# EAGLE library part 691417320006S (library WR-TBL Spring Clamp)
WR-TBL Serie 4173S - 3.81 mm 45° Cable Entry Screwless KIND PROPERTIES Pitch 3.81 mm MATERIAL PROPERTIES Insulator Material PA6/66 Insulator Flammability Rating UL94 V-0 Insulator Color Grey Contact Material Phosphor Bronze Contact Plating Matte Tin Wire Guard Material Phosphor Bronze GENERAL INFORMATION Operating Temperature -30 up to +120 °C Compliance Lead free / RoHS ELECTRICAL PROPERTIES IR UL 4 A IR VDE 4 A Working Voltage [UL] 300 V (AC) Working Voltage [VDE] 250 V (AC) Withstanding Voltage [UL] 1600 V (AC) Withstanding Voltage [VDE] 2000 V (AC) Contact Resistance 20 mΩ Mechanical Properties Wire Strip Length 7 (mm) Wire Properties Solid Wire Section (AWG) 16 to 30 (AWG) Solid Wire Section (Metric) 1.31 to 0.0509 (mm²) Stranded Wire Section (AWG) 16 to 30 (AWG) Stranded Wire Section (Metric) 1.31 to 0.0509 (mm²) CERTIFICATION UL Approval E150931 VDE Approval 40013441 Packaging Properties Packaging Box <https://www.we-online.com/catalog/media/o79334v209%20Family_WR-TBL_6914173200xxS_4C.jpg> Details see: https://www.we-online.com/catalog/en/TBL_3_81_4173S_SCREWLESS_ANGLED_ENTRY_6914173200XXS/ Updated by Ella Wu 2019-12-31 2019(C) Wurth Elektronik
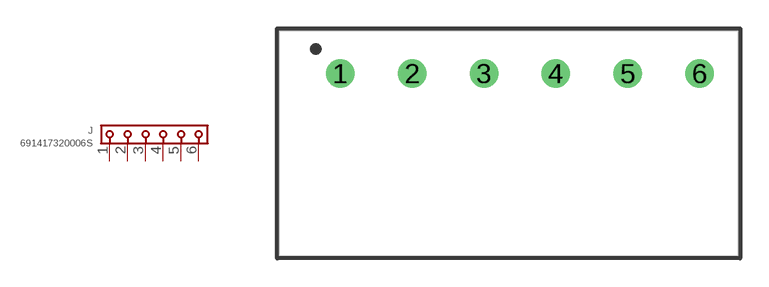
[diagram p41: symbol with the pads of 691417320006S; footprint 691417320006S]

Designator prefix J

## 691417320006S (DATASHEET-URL: https://www.we-online.com/redexpert/spec/691417320006S?ae; IR-UL: 4A; IR-VDE: 4A; MOUNT: THT; PART-NUMBER: 691417320006S; PINS: 6; PITCH: 3.81mm; TYPE: 45°; VALUE: 691417320006S; WIRE: 16 to 30 (AWG) 1.31 to 0.0509 (mm²); WORKING-VOLTAGE-UL: 300V (AC); WORKING-VOLTAGE-VDE: 250V (AC))  [691417320006S]
1  1  pas
2  2  pas
3  3  pas
4  4  pas
5  5  pas
6  6  pas

## Footprint 691417320006S (pad centres in mm)
WR-TBL Serie 4173S - 3.81 mm 45° Cable Entry Screwless Max Height = 13.2mm , Pitch 3.81mm , 6pins
drill 1: 1 -9.525,0; 2 -5.715,0; 3 -1.905,0; 4 1.905,0; 5 5.715,0; 6 9.525,0